# EAGLE library part MKDS07 (library con-phoenix-508)
Screw Connector
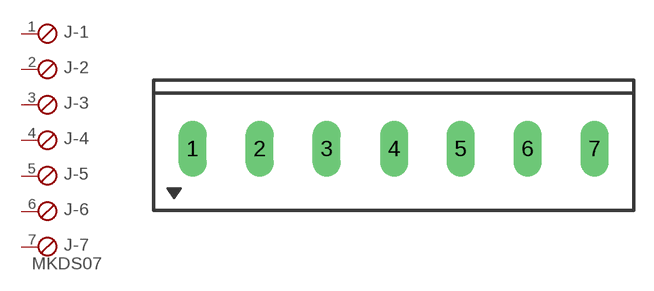
[diagram p66: symbol with the pads of MKDS07; footprint MKDS07]

Designator prefix J; gates -1=STB -2=STB -3=STB -4=STB -5=STB -6=STB -7=STBV

## MKDS07  [MKDS07]
1  -1:1  pas
2  -2:1  pas
3  -3:1  pas
4  -4:1  pas
5  -5:1  pas
6  -6:1  pas
7  -7:1  pas

## Footprint MKDS07 (pad centres in mm)
MKDS 5.08 mm pitch
drill 1.422 long: 1 -15.24,0; 2 -10.16,0; 3 -5.08,0; 4 0.04,0; 5 5.08,0; 6 10.16,0; 7 15.24,0